# EAGLE library part LM3478 (library m_misc)
LM3478/LM3478Q High Efficiency Low-Side N-Channel Controller for Switching Regulator General Description The LM3478 is a versatile Low-Side N-Channel MOSFET controller for switching regulators. It is suitable for use in topologies requiring a low side MOSFET, such as boost, flyback, SEPIC, etc. Moreover, the LM3478 can be operated at extremely high switching frequency in order to reduce the overall solution size. The switching frequency of the LM3478 can be adjusted to any value between 100kHz and 1MHz by using a single external resistor. Current mode control provides superior bandwidth and transient response, besides cycle-by-cycle current limiting. Output current can be pro- grammed with a single external resistor. The LM3478 has built in features such as thermal shutdown, short-circuit protection, over voltage protection, etc. Power saving shutdown mode reduces the total supply current to 5µA and allows power supply sequencing. Internal soft-start limits the inrush current at start-up. Key Specifications: Wide supply voltage range of 2.97V to 40V 100kHz to 1MHz Adjustable clock frequency ±2.5% (over temperature) internal reference 10µA shutdown current (over temperature) Features: LM3478Q is AEC-Q100 qualified and manufactured on an Automotive Grade Flow 8-lead Mini-SO8 (MSOP-8) package Internal push-pull driver with 1A peak current capability Current limit and thermal shutdown Frequency compensation optimized with a capacitor and a resistor Internal softstart Current Mode Operation Undervoltage Lockout with hysteresis
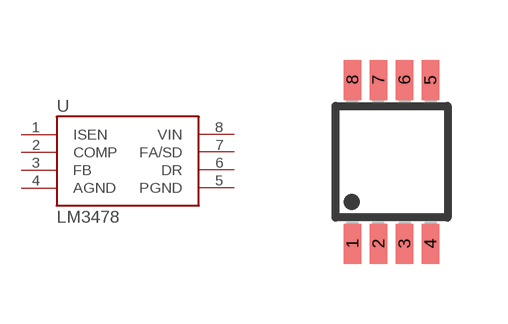
[diagram p26: symbol with the pads of MSOP8; footprint MSOP8]

Designator prefix -

## LM3478  [MSOP8]
1  ISEN
2  COMP
3  FB
4  AGND
5  PGND
6  DR
7  FA/SD
8  VIN

## Footprint MSOP8 (pad centres in mm)
Micro Small Outline Package
smd 0.44 x 1: 1 -0.975,-2.05; 2 -0.325,-2.05; 3 0.325,-2.05; 4 0.975,-2.05; 5 0.975,2.05; 6 0.325,2.05; 7 -0.325,2.05; 8 -0.975,2.05